# EAGLE library part SENSOR-MOTION/POSITION-ADXL335BCPZ-RL7(QFN16) (library Seeed-OPL-sensor)
314080013
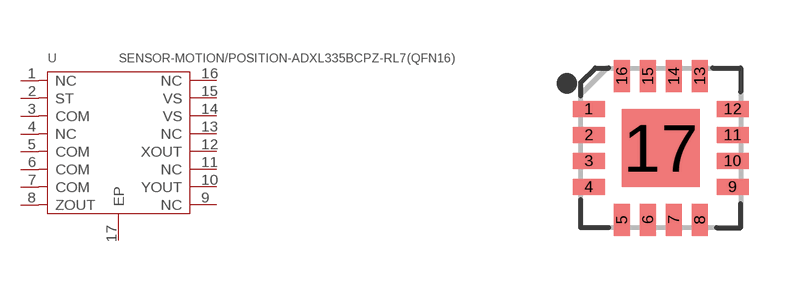
[diagram p14: symbol with the pads of QFN16G-0.65-4X4MM; footprint QFN16G-0.65-4X4MM]

Designator prefix U

## SENSOR-MOTION/POSITION-ADXL335BCPZ-RL7(QFN16) (MPN: ADXL335BCPZ-RL7; VALUE: ADXL335BCPZ-RL7)  [QFN16G-0.65-4X4MM]
1  NC  nc
2  ST
3  COM
4  NC  nc
5  COM
6  COM
7  COM
8  ZOUT
9  NC  nc
10  YOUT
11  NC  nc
12  XOUT
13  NC  nc
14  VS
15  VS
16  NC  nc
17  EP

## Footprint QFN16G-0.65-4X4MM (pad centres in mm)
smd 0.8 x 0.4: 1 -1.8,0.975; 2 -1.8,0.325; 3 -1.8,-0.325; 4 -1.8,-0.975; 9 1.8,-0.975; 10 1.8,-0.325; 11 1.8,0.325; 12 1.8,0.975
smd 0.4 x 0.8: 5 -0.975,-1.8; 6 -0.325,-1.8; 7 0.325,-1.8; 8 0.975,-1.8; 13 0.975,1.8; 14 0.325,1.8; 15 -0.325,1.8; 16 -0.975,1.8
smd 1.95 x 1.95: 17 0,0